# Altium schematic symbol library PCF51JM128VQH.Schlib: 1 symbol
Pins are listed as number, name and electrical type; pins without a type are passive.

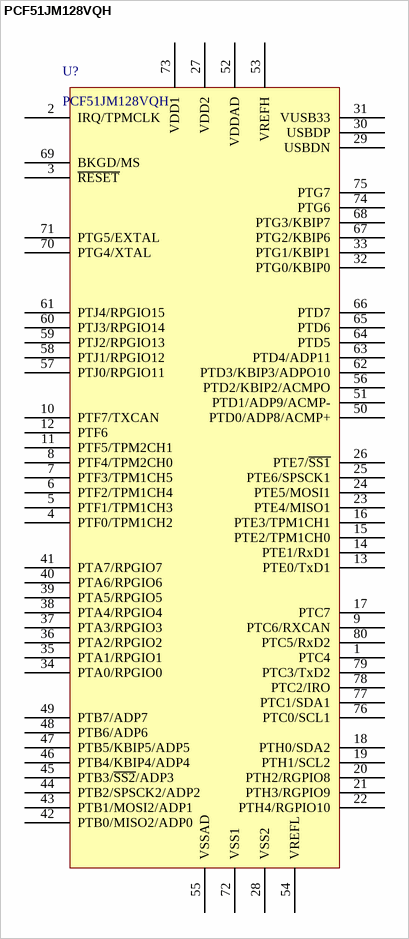
[diagram p0: symbol PCF51JM128VQH]

## PCF51JM128VQH
designator U?
pins: 1 PTC4, 2 IRQ/TPMCLK, 3 ~{RESET}, 4 PTF0/TPM1CH2, 5 PTF1/TPM1CH3, 6 PTF2/TPM1CH4, 7 PTF3/TPM1CH5, 8 PTF4/TPM2CH0, 9 PTC6/RXCAN, 10 PTF7/TXCAN, 11 PTF5/TPM2CH1, 12 PTF6, 13 PTE0/TxD1, 14 PTE1/RxD1, 15 PTE2/TPM1CH0, 16 PTE3/TPM1CH1, 17 PTC7, 18 PTH0/SDA2, 19 PTH1/SCL2, 20 PTH2/RGPIO8, 21 PTH3/RGPIO9, 22 PTH4/RGPIO10, 23 PTE4/MISO1, 24 PTE5/MOSI1, 25 PTE6/SPSCK1, 26 PTE7/~{SS1}, 27 VDD2 (power), 28 VSS2 (power), 29 USBDN, 30 USBDP, 31 VUSB33, 32 PTG0/KBIP0, 33 PTG1/KBIP1, 34 PTA0/RPGIO0, 35 PTA1/RPGIO1, 36 PTA2/RPGIO2, 37 PTA3/RPGIO3, 38 PTA4/RPGIO4, 39 PTA5/RPGIO5, 40 PTA6/RPGIO6, 41 PTA7/RPGIO7, 42 PTB0/MISO2/ADP0, 43 PTB1/MOSI2/ADP1, 44 PTB2/SPSCK2/ADP2, 45 PTB3/~{SS2}/ADP3, 46 PTB4/KBIP4/ADP4, 47 PTB5/KBIP5/ADP5, 48 PTB6/ADP6, 49 PTB7/ADP7, 50 PTD0/ADP8/ACMP+, 51 PTD1/ADP9/ACMP-, 52 VDDAD, 53 VREFH, 54 VREFL, 55 VSSAD, 56 PTD2/KBIP2/ACMPO, 57 PTJ0/RPGIO11, 58 PTJ1/RPGIO12, 59 PTJ2/RPGIO13, 60 PTJ3/RPGIO14, 61 PTJ4/RPGIO15, 62 PTD3/KBIP3/ADPO10, 63 PTD4/ADP11, 64 PTD5, 65 PTD6, 66 PTD7, 67 PTG2/KBIP6, 68 PTG3/KBIP7, 69 BKGD/MS, 70 PTG4/XTAL, 71 PTG5/EXTAL, 72 VSS1 (power), 73 VDD1 (power), 74 PTG6, 75 PTG7, 76 PTC0/SCL1, 77 PTC1/SDA1, 78 PTC2/IRO, 79 PTC3/TxD2, 80 PTC5/RxD2